# EAGLE library part NAND256 (library rom)
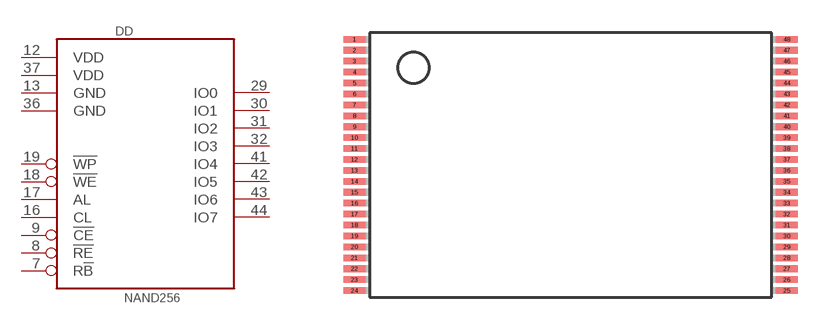
[diagram p0: symbol with the pads of TSOP48; footprint TSOP48]

Designator prefix DD

## NAND256  [TSOP48]
7  R!B  oc
8  !RE  in
9  !CE  in
12  VDD  pwr
13  GND  pwr
16  CL  in
17  AL  in
18  !WE  in
19  !WP  in
29  IO0
30  IO1
31  IO2
32  IO3
36  GND  pwr
37  VDD  pwr
41  IO4
42  IO5
43  IO6
44  IO7

## Footprint TSOP48 (pad centres in mm)
smd 1 x 0.3: 1 -9.59,5.45; 2 -9.59,4.95; 3 -9.59,4.45; 4 -9.59,3.95; 5 -9.59,3.45; 6 -9.59,2.95; 7 -9.59,2.45; 8 -9.59,1.95; 9 -9.59,1.45; 10 -9.59,0.95; 11 -9.59,0.45; 12 -9.59,-0.05; 13 -9.59,-0.55; 14 -9.59,-1.05; 15 -9.59,-1.55; 16 -9.59,-2.05; 17 -9.59,-2.55; 18 -9.59,-3.05; 19 -9.59,-3.55; 20 -9.59,-4.05; 21 -9.59,-4.55; 22 -9.59,-5.05; 23 -9.59,-5.55; 24 -9.59,-6.05; 25 10.21,-6.05; 26 10.21,-5.55; 27 10.21,-5.05; 28 10.21,-4.55; 29 10.21,-4.05; 30 10.21,-3.55; 31 10.21,-3.05; 32 10.21,-2.55; 33 10.21,-2.05; 34 10.21,-1.55; 35 10.21,-1.05; 36 10.21,-0.55; 37 10.21,-0.05; 38 10.21,0.45; 39 10.21,0.95; 40 10.21,1.45; 41 10.21,1.95; 42 10.21,2.45; 43 10.21,2.95; 44 10.21,3.45; 45 10.21,3.95; 46 10.21,4.45; 47 10.21,4.95; 48 10.21,5.45